# Altium integrated library Resistors$.IntLib: 1243 symbols (part 1 of 7)
Pins are listed as number, name and electrical type; pins without a type are passive.

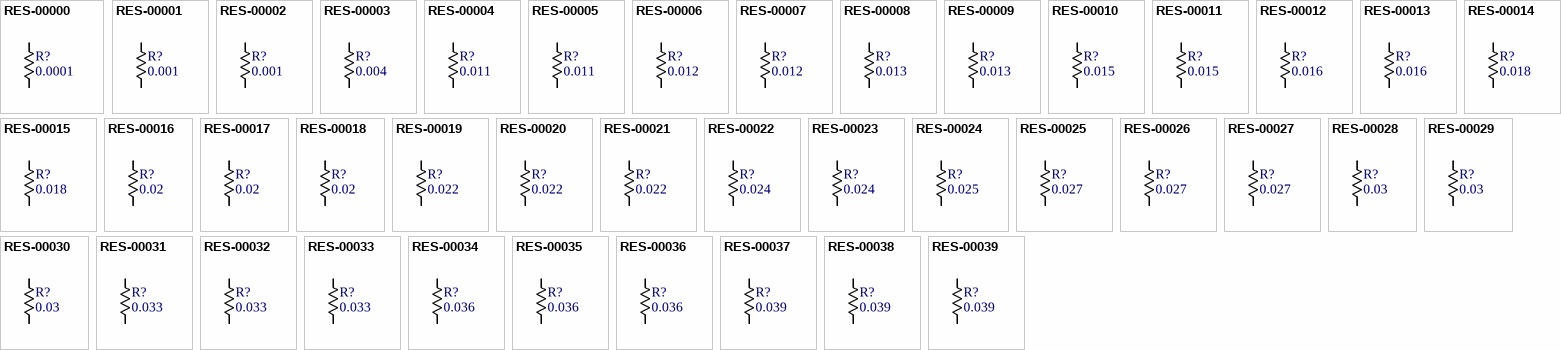
[diagram p0: symbols RES-00000 to RES-00039]

## RES-00000
designator R?, comment 0.0001
RES, 0.0001, 1%, 4W, 2725; Part Number: RES-00000; Manufacturer: Stackpole; Manufacturer PN: CSS2725FT1L00; Resistance: 0.0001; Tolerance: 1%; Power Rating: 4W
footprint chip_2725
pins: 1, 2

## RES-00001
designator R?, comment 0.001
RES, 0.001, 1%, 5W, 2512 CS; Part Number: RES-00001; Manufacturer: Vishay Dale; Manufacturer PN: WSLF25121L000FEA; Resistance: 0.001; Tolerance: 1%; Power Rating: 5W
footprint chip_2512_cs
pins: 1, 2

## RES-00002
designator R?, comment 0.001
RES, 0.001, 1%, 1W, 2512; Part Number: RES-00002; Manufacturer: Yageo; Manufacturer PN: PA2512FKF070R001E; Resistance: 0.001; Tolerance: 1%; Power Rating: 1W
footprint chip_2512_cs
pins: 1, 2

## RES-00003
designator R?, comment 0.004
RES, 0.003, 1%, 2W, 2512; Part Number: RES-00003; Manufacturer: Rohm; Manufacturer PN: PMR100HZPFV4L00; Resistance: 0.004; Tolerance: 1%; Power Rating: 2W
footprint chip_2512_cs
pins: 1, 2

## RES-00004
designator R?, comment 0.011
RES, 0.011, 1%, 333mW, 0805; Part Number: RES-00004; Manufacturer: Rohm; Manufacturer PN: UCR10EVHFSR011; Resistance: 0.011; Tolerance: 1%; Power Rating: 333mW
footprint chip_0805
pins: 1, 2

## RES-00005
designator R?, comment 0.011
RES, 0.011, 1%, 500mW, 1206; Part Number: RES-00005; Manufacturer: Rohm; Manufacturer PN: UCR18EVHFSR011; Resistance: 0.011; Tolerance: 1%; Power Rating: 500mW
footprint chip_1206
pins: 1, 2

## RES-00006
designator R?, comment 0.012
RES, 0.012, 1%, 333mW, 0805; Part Number: RES-00006; Manufacturer: Rohm; Manufacturer PN: UCR10EVHFSR012; Resistance: 0.012; Tolerance: 1%; Power Rating: 333mW
footprint chip_0805
pins: 1, 2

## RES-00007
designator R?, comment 0.012
RES, 0.012, 1%, 500mW, 1206; Part Number: RES-00007; Manufacturer: Rohm; Manufacturer PN: UCR18EVHFSR012; Resistance: 0.012; Tolerance: 1%; Power Rating: 500mW
footprint chip_1206
pins: 1, 2

## RES-00008
designator R?, comment 0.013
RES, 0.013, 1%, 333mW, 0805; Part Number: RES-00008; Manufacturer: Rohm; Manufacturer PN: UCR10EVHFSR013; Resistance: 0.013; Tolerance: 1%; Power Rating: 333mW
footprint chip_0805
pins: 1, 2

## RES-00009
designator R?, comment 0.013
RES, 0.013, 1%, 500mW, 1206; Part Number: RES-00009; Manufacturer: Rohm; Manufacturer PN: UCR18EVHFSR013; Resistance: 0.013; Tolerance: 1%; Power Rating: 500mW
footprint chip_1206
pins: 1, 2

## RES-00010
designator R?, comment 0.015
RES, 0.015, 1%, 333mW, 0805; Part Number: RES-00010; Manufacturer: Rohm; Manufacturer PN: UCR10EVHFSR015; Resistance: 0.015; Tolerance: 1%; Power Rating: 333mW
footprint chip_0805
pins: 1, 2

## RES-00011
designator R?, comment 0.015
RES, 0.015, 1%, 500mW, 1206; Part Number: RES-00011; Manufacturer: Rohm; Manufacturer PN: UCR18EVHFSR015; Resistance: 0.015; Tolerance: 1%; Power Rating: 500mW
footprint chip_1206
pins: 1, 2

## RES-00012
designator R?, comment 0.016
RES, 0.016, 1%, 333mW, 0805; Part Number: RES-00012; Manufacturer: Rohm; Manufacturer PN: UCR10EVHFSR016; Resistance: 0.016; Tolerance: 1%; Power Rating: 333mW
footprint chip_0805
pins: 1, 2

## RES-00013
designator R?, comment 0.016
RES, 0.016, 1%, 500mW, 1206; Part Number: RES-00013; Manufacturer: Rohm; Manufacturer PN: UCR18EVHFSR016; Resistance: 0.016; Tolerance: 1%; Power Rating: 500mW
footprint chip_1206
pins: 1, 2

## RES-00014
designator R?, comment 0.018
RES, 0.018, 1%, 500mW, 1206; Part Number: RES-00014; Manufacturer: Rohm; Manufacturer PN: UCR18EVHFSR018; Resistance: 0.018; Tolerance: 1%; Power Rating: 500mW
footprint chip_1206
pins: 1, 2

## RES-00015
designator R?, comment 0.018
RES, 0.018, 1%, 333mW, 0805; Part Number: RES-00015; Manufacturer: Rohm; Manufacturer PN: UCR10EVHFSR018; Resistance: 0.018; Tolerance: 1%; Power Rating: 333mW
footprint chip_0805
pins: 1, 2

## RES-00016
designator R?, comment 0.02
RES, 0.02, 1%, 500mW, 1206; Part Number: RES-00016; Manufacturer: Rohm; Manufacturer PN: UCR18EVHFSR020; Resistance: 0.02; Tolerance: 1%; Power Rating: 500mW
footprint chip_1206
pins: 1, 2

## RES-00017
designator R?, comment 0.02
RES, 0.02, 1%, 333mW, 0805; Part Number: RES-00017; Manufacturer: Rohm; Manufacturer PN: UCR10EVHFSR020; Resistance: 0.02; Tolerance: 1%; Power Rating: 333mW
footprint chip_0805
pins: 1, 2

## RES-00018
designator R?, comment 0.02
RES, 0.02, 1%, 250mW, 0603; Part Number: RES-00018; Manufacturer: Rohm; Manufacturer PN: UCR03EWPFSR020; Resistance: 0.02; Tolerance: 1%; Power Rating: 250mW
footprint chip_0603
pins: 1, 2

## RES-00019
designator R?, comment 0.022
RES, 0.022, 1%, 333mW, 0805; Part Number: RES-00019; Manufacturer: Rohm; Manufacturer PN: UCR10EVHFSR022; Resistance: 0.022; Tolerance: 1%; Power Rating: 333mW
footprint chip_0805
pins: 1, 2

## RES-00020
designator R?, comment 0.022
RES, 0.022, 1%, 250mW, 0603; Part Number: RES-00020; Manufacturer: Rohm; Manufacturer PN: UCR03EWPFSR022; Resistance: 0.022; Tolerance: 1%; Power Rating: 250mW
footprint chip_0603
pins: 1, 2

## RES-00021
designator R?, comment 0.022
RES, 0.022, 1%, 500mW, 1206; Part Number: RES-00021; Manufacturer: Rohm; Manufacturer PN: UCR18EVHFSR022; Resistance: 0.022; Tolerance: 1%; Power Rating: 500mW
footprint chip_1206
pins: 1, 2

## RES-00022
designator R?, comment 0.024
RES, 0.024, 1%, 250mW, 0603; Part Number: RES-00022; Manufacturer: Rohm; Manufacturer PN: UCR03EWPFSR024; Resistance: 0.024; Tolerance: 1%; Power Rating: 250mW
footprint chip_0603
pins: 1, 2

## RES-00023
designator R?, comment 0.024
RES, 0.024, 1%, 500mW, 1206; Part Number: RES-00023; Manufacturer: Rohm; Manufacturer PN: UCR18EVHFSR024; Resistance: 0.024; Tolerance: 1%; Power Rating: 500mW
footprint chip_1206
pins: 1, 2

## RES-00024
designator R?, comment 0.025
RES, 0.025, 1%, 333mW, 0805; Part Number: RES-00024; Manufacturer: Rohm; Manufacturer PN: UCR10EVHFSR025; Resistance: 0.025; Tolerance: 1%; Power Rating: 333mW
footprint chip_0805
pins: 1, 2

## RES-00025
designator R?, comment 0.027
RES, 0.027, 1%, 333mW, 0805; Part Number: RES-00025; Manufacturer: Rohm; Manufacturer PN: UCR10EVHFSR027; Resistance: 0.027; Tolerance: 1%; Power Rating: 333mW
footprint chip_0805
pins: 1, 2

## RES-00026
designator R?, comment 0.027
RES, 0.027, 1%, 500mW, 1206; Part Number: RES-00026; Manufacturer: Rohm; Manufacturer PN: UCR18EVHFSR027; Resistance: 0.027; Tolerance: 1%; Power Rating: 500mW
footprint chip_1206
pins: 1, 2

## RES-00027
designator R?, comment 0.027
RES, 0.027, 1%, 250mW, 0603; Part Number: RES-00027; Manufacturer: Rohm; Manufacturer PN: UCR03EWPFSR027; Resistance: 0.027; Tolerance: 1%; Power Rating: 250mW
footprint chip_0603
pins: 1, 2

## RES-00028
designator R?, comment 0.03
RES, 0.03, 1%, 500mW, 1206; Part Number: RES-00028; Manufacturer: Rohm; Manufacturer PN: UCR18EVHFSR030; Resistance: 0.03; Tolerance: 1%; Power Rating: 500mW
footprint chip_1206
pins: 1, 2

## RES-00029
designator R?, comment 0.03
RES, 0.03, 1%, 333mW, 0805; Part Number: RES-00029; Manufacturer: Rohm; Manufacturer PN: UCR10EVHFSR030; Resistance: 0.03; Tolerance: 1%; Power Rating: 333mW
footprint chip_0805
pins: 1, 2

## RES-00030
designator R?, comment 0.03
RES, 0.03, 1%, 250mW, 0603; Part Number: RES-00030; Manufacturer: Rohm; Manufacturer PN: UCR03EWPFSR030; Resistance: 0.03; Tolerance: 1%; Power Rating: 250mW
footprint chip_0603
pins: 1, 2

## RES-00031
designator R?, comment 0.033
RES, 0.033, 1%, 250mW, 0603; Part Number: RES-00031; Manufacturer: Rohm; Manufacturer PN: UCR03EWPFSR033; Resistance: 0.033; Tolerance: 1%; Power Rating: 250mW
footprint chip_0603
pins: 1, 2

## RES-00032
designator R?, comment 0.033
RES, 0.033, 1%, 500mW, 1206; Part Number: RES-00032; Manufacturer: Rohm; Manufacturer PN: UCR18EVHFSR033; Resistance: 0.033; Tolerance: 1%; Power Rating: 500mW
footprint chip_1206
pins: 1, 2

## RES-00033
designator R?, comment 0.033
RES, 0.033, 1%, 333mW, 0805; Part Number: RES-00033; Manufacturer: Rohm; Manufacturer PN: UCR10EVHFSR033; Resistance: 0.033; Tolerance: 1%; Power Rating: 333mW
footprint chip_0805
pins: 1, 2

## RES-00034
designator R?, comment 0.036
RES, 0.036, 1%, 333mW, 0805; Part Number: RES-00034; Manufacturer: Rohm; Manufacturer PN: UCR10EVHFSR036; Resistance: 0.036; Tolerance: 1%; Power Rating: 333mW
footprint chip_0805
pins: 1, 2

## RES-00035
designator R?, comment 0.036
RES, 0.036, 1%, 250mW, 0603; Part Number: RES-00035; Manufacturer: Rohm; Manufacturer PN: UCR03EWPFSR036; Resistance: 0.036; Tolerance: 1%; Power Rating: 250mW
footprint chip_0603
pins: 1, 2

## RES-00036
designator R?, comment 0.036
RES, 0.036, 1%, 500mW, 1206; Part Number: RES-00036; Manufacturer: Rohm; Manufacturer PN: UCR18EVHFSR036; Resistance: 0.036; Tolerance: 1%; Power Rating: 500mW
footprint chip_1206
pins: 1, 2

## RES-00037
designator R?, comment 0.039
RES, 0.039, 1%, 333mW, 0805; Part Number: RES-00037; Manufacturer: Rohm; Manufacturer PN: UCR10EVHFSR039; Resistance: 0.039; Tolerance: 1%; Power Rating: 333mW
footprint chip_0805
pins: 1, 2

## RES-00038
designator R?, comment 0.039
RES, 0.039, 1%, 500mW, 1206; Part Number: RES-00038; Manufacturer: Rohm; Manufacturer PN: UCR18EVHFSR039; Resistance: 0.039; Tolerance: 1%; Power Rating: 500mW
footprint chip_1206
pins: 1, 2

## RES-00039
designator R?, comment 0.039
RES, 0.039, 1%, 250mW, 0603; Part Number: RES-00039; Manufacturer: Rohm; Manufacturer PN: UCR03EWPFSR039; Resistance: 0.039; Tolerance: 1%; Power Rating: 250mW
footprint chip_0603
pins: 1, 2

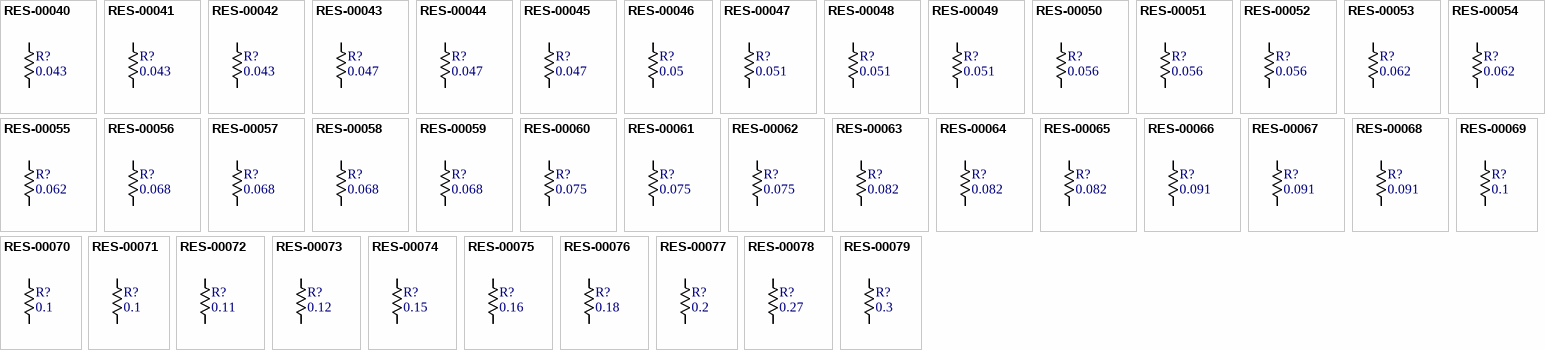
[diagram p1: symbols RES-00040 to RES-00079]

## RES-00040
designator R?, comment 0.043
RES, 0.043, 1%, 333mW, 0805; Part Number: RES-00040; Manufacturer: Rohm; Manufacturer PN: UCR10EVHFSR043; Resistance: 0.043; Tolerance: 1%; Power Rating: 333mW
footprint chip_0805
pins: 1, 2

## RES-00041
designator R?, comment 0.043
RES, 0.043, 1%, 500mW, 1206; Part Number: RES-00041; Manufacturer: Rohm; Manufacturer PN: UCR18EVHFSR043; Resistance: 0.043; Tolerance: 1%; Power Rating: 500mW
footprint chip_1206
pins: 1, 2

## RES-00042
designator R?, comment 0.043
RES, 0.043, 1%, 250mW, 0603; Part Number: RES-00042; Manufacturer: Rohm; Manufacturer PN: UCR03EWPFSR043; Resistance: 0.043; Tolerance: 1%; Power Rating: 250mW
footprint chip_0603
pins: 1, 2

## RES-00043
designator R?, comment 0.047
RES, 0.047, 1%, 500mW, 1206; Part Number: RES-00043; Manufacturer: Rohm; Manufacturer PN: UCR18EVHFSR047; Resistance: 0.047; Tolerance: 1%; Power Rating: 500mW
footprint chip_1206
pins: 1, 2

## RES-00044
designator R?, comment 0.047
RES, 0.047, 1%, 333mW, 0805; Part Number: RES-00044; Manufacturer: Rohm; Manufacturer PN: UCR10EVHFSR047; Resistance: 0.047; Tolerance: 1%; Power Rating: 333mW
footprint chip_0805
pins: 1, 2

## RES-00045
designator R?, comment 0.047
RES, 0.047, 1%, 250mW, 0603; Part Number: RES-00045; Manufacturer: Rohm; Manufacturer PN: UCR03EWPFSR047; Resistance: 0.047; Tolerance: 1%; Power Rating: 250mW
footprint chip_0603
pins: 1, 2

## RES-00046
designator R?, comment 0.05
RES, 0.05, 1%, 333mW, 0805; Part Number: RES-00046; Manufacturer: Rohm; Manufacturer PN: UCR10EVHFSR050; Resistance: 0.05; Tolerance: 1%; Power Rating: 333mW
footprint chip_0805
pins: 1, 2

## RES-00047
designator R?, comment 0.051
RES, 0.051, 1%, 250mW, 0603; Part Number: RES-00047; Manufacturer: Rohm; Manufacturer PN: UCR03EVPFSR051; Resistance: 0.051; Tolerance: 1%; Power Rating: 250mW
footprint chip_0603
pins: 1, 2

## RES-00048
designator R?, comment 0.051
RES, 0.051, 1%, 500mW, 1206; Part Number: RES-00048; Manufacturer: Rohm; Manufacturer PN: UCR18EVHFSR051; Resistance: 0.051; Tolerance: 1%; Power Rating: 500mW
footprint chip_1206
pins: 1, 2

## RES-00049
designator R?, comment 0.051
RES, 0.051, 1%, 333mW, 0805; Part Number: RES-00049; Manufacturer: Rohm; Manufacturer PN: UCR10EVHFSR051; Resistance: 0.051; Tolerance: 1%; Power Rating: 333mW
footprint chip_0805
pins: 1, 2

## RES-00050
designator R?, comment 0.056
RES, 0.056, 1%, 250mW, 0603; Part Number: RES-00050; Manufacturer: Rohm; Manufacturer PN: UCR03EVPFSR056; Resistance: 0.056; Tolerance: 1%; Power Rating: 250mW
footprint chip_0603
pins: 1, 2

## RES-00051
designator R?, comment 0.056
RES, 0.056, 1%, 333mW, 0805; Part Number: RES-00051; Manufacturer: Rohm; Manufacturer PN: UCR10EVHFSR056; Resistance: 0.056; Tolerance: 1%; Power Rating: 333mW
footprint chip_0805
pins: 1, 2

## RES-00052
designator R?, comment 0.056
RES, 0.056, 1%, 500mW, 1206; Part Number: RES-00052; Manufacturer: Rohm; Manufacturer PN: UCR18EVHFSR056; Resistance: 0.056; Tolerance: 1%; Power Rating: 500mW
footprint chip_1206
pins: 1, 2

## RES-00053
designator R?, comment 0.062
RES, 0.062, 1%, 250mW, 0603; Part Number: RES-00053; Manufacturer: Rohm; Manufacturer PN: UCR03EVPFSR062; Resistance: 0.062; Tolerance: 1%; Power Rating: 250mW
footprint chip_0603
pins: 1, 2

## RES-00054
designator R?, comment 0.062
RES, 0.062, 1%, 500mW, 1206; Part Number: RES-00054; Manufacturer: Rohm; Manufacturer PN: UCR18EVHFSR062; Resistance: 0.062; Tolerance: 1%; Power Rating: 500mW
footprint chip_1206
pins: 1, 2

## RES-00055
designator R?, comment 0.062
RES, 0.062, 1%, 333mW, 0805; Part Number: RES-00055; Manufacturer: Rohm; Manufacturer PN: UCR10EVHFSR062; Resistance: 0.062; Tolerance: 1%; Power Rating: 333mW
footprint chip_0805
pins: 1, 2

## RES-00056
designator R?, comment 0.068
RES, 0.068, 1%, 250mW, 0603; Part Number: RES-00056; Manufacturer: Rohm; Manufacturer PN: UCR03EVPFSR068; Resistance: 0.068; Tolerance: 1%; Power Rating: 250mW
footprint chip_0603
pins: 1, 2

## RES-00057
designator R?, comment 0.068
RES, 0.068, 1%, 125mW, 0402; Part Number: RES-00057; Manufacturer: Rohm; Manufacturer PN: UCR01MVPFSR068; Resistance: 0.068; Tolerance: 1%; Power Rating: 125mW
footprint chip_0402
pins: 1, 2

## RES-00058
designator R?, comment 0.068
RES, 0.068, 1%, 333mW, 0805; Part Number: RES-00058; Manufacturer: Rohm; Manufacturer PN: UCR10EVHFSR068; Resistance: 0.068; Tolerance: 1%; Power Rating: 333mW
footprint chip_0805
pins: 1, 2

## RES-00059
designator R?, comment 0.068
RES, 0.068, 1%, 500mW, 1206; Part Number: RES-00059; Manufacturer: Rohm; Manufacturer PN: UCR18EVHFSR068; Resistance: 0.068; Tolerance: 1%; Power Rating: 500mW
footprint chip_1206
pins: 1, 2

## RES-00060
designator R?, comment 0.075
RES, 0.075, 1%, 250mW, 0603; Part Number: RES-00060; Manufacturer: Rohm; Manufacturer PN: UCR03EVPFSR075; Resistance: 0.075; Tolerance: 1%; Power Rating: 250mW
footprint chip_0603
pins: 1, 2

## RES-00061
designator R?, comment 0.075
RES, 0.075, 1%, 333mW, 0805; Part Number: RES-00061; Manufacturer: Rohm; Manufacturer PN: UCR10EVHFSR075; Resistance: 0.075; Tolerance: 1%; Power Rating: 333mW
footprint chip_0805
pins: 1, 2

## RES-00062
designator R?, comment 0.075
RES, 0.075, 1%, 500mW, 1206; Part Number: RES-00062; Manufacturer: Rohm; Manufacturer PN: UCR18EVHFSR075; Resistance: 0.075; Tolerance: 1%; Power Rating: 500mW
footprint chip_1206
pins: 1, 2

## RES-00063
designator R?, comment 0.082
RES, 0.082, 1%, 250mW, 0603; Part Number: RES-00063; Manufacturer: Rohm; Manufacturer PN: UCR03EVPFSR082; Resistance: 0.082; Tolerance: 1%; Power Rating: 250mW
footprint chip_0603
pins: 1, 2

## RES-00064
designator R?, comment 0.082
RES, 0.082, 1%, 333mW, 0805; Part Number: RES-00064; Manufacturer: Rohm; Manufacturer PN: UCR10EVHFSR082; Resistance: 0.082; Tolerance: 1%; Power Rating: 333mW
footprint chip_0805
pins: 1, 2

## RES-00065
designator R?, comment 0.082
RES, 0.082, 1%, 500mW, 1206; Part Number: RES-00065; Manufacturer: Rohm; Manufacturer PN: UCR18EVHFSR082; Resistance: 0.082; Tolerance: 1%; Power Rating: 500mW
footprint chip_1206
pins: 1, 2

## RES-00066
designator R?, comment 0.091
RES, 0.091, 1%, 333mW, 0805; Part Number: RES-00066; Manufacturer: Rohm; Manufacturer PN: UCR10EVHFSR091; Resistance: 0.091; Tolerance: 1%; Power Rating: 333mW
footprint chip_0805
pins: 1, 2

## RES-00067
designator R?, comment 0.091
RES, 0.091, 1%, 500mW, 1206; Part Number: RES-00067; Manufacturer: Rohm; Manufacturer PN: UCR18EVHFSR091; Resistance: 0.091; Tolerance: 1%; Power Rating: 500mW
footprint chip_1206
pins: 1, 2

## RES-00068
designator R?, comment 0.091
RES, 0.091, 1%, 250mW, 0603; Part Number: RES-00068; Manufacturer: Rohm; Manufacturer PN: UCR03EVPFSR091; Resistance: 0.091; Tolerance: 1%; Power Rating: 250mW
footprint chip_0603
pins: 1, 2

## RES-00069
designator R?, comment 0.1
RES, 0.1, 1%, 250mW, 0603; Part Number: RES-00069; Manufacturer: Rohm; Manufacturer PN: UCR03EVPFLR100; Resistance: 0.1; Tolerance: 1%; Power Rating: 250mW
footprint chip_0603
pins: 1, 2

## RES-00070
designator R?, comment 0.1
RES, 0.1, 1%, 333mW, 0805; Part Number: RES-00070; Manufacturer: Rohm; Manufacturer PN: UCR10EVHFLR100; Resistance: 0.1; Tolerance: 1%; Power Rating: 333mW
footprint chip_0805
pins: 1, 2

## RES-00071
designator R?, comment 0.1
RES, 0.1, 1%, 500mW, 1206; Part Number: RES-00071; Manufacturer: Rohm; Manufacturer PN: UCR18EVHFLR100; Resistance: 0.1; Tolerance: 1%; Power Rating: 500mW
footprint chip_1206
pins: 1, 2

## RES-00072
designator R?, comment 0.11
RES, 0.11, 1%, 250mW, 0603; Part Number: RES-00072; Manufacturer: Rohm; Manufacturer PN: UCR03EVPFLR110; Resistance: 0.11; Tolerance: 1%; Power Rating: 250mW
footprint chip_0603
pins: 1, 2

## RES-00073
designator R?, comment 0.12
RES, 0.12, 1%, 250mW, 0603; Part Number: RES-00073; Manufacturer: Rohm; Manufacturer PN: UCR03EVPFLR120; Resistance: 0.12; Tolerance: 1%; Power Rating: 250mW
footprint chip_0603
pins: 1, 2

## RES-00074
designator R?, comment 0.15
RES, 0.15, 1%, 250mW, 0603; Part Number: RES-00074; Manufacturer: Rohm; Manufacturer PN: UCR03EVPFLR150; Resistance: 0.15; Tolerance: 1%; Power Rating: 250mW
footprint chip_0603
pins: 1, 2

## RES-00075
designator R?, comment 0.16
RES, 0.16, 1%, 250mW, 0603; Part Number: RES-00075; Manufacturer: Rohm; Manufacturer PN: UCR03EVPFLR160; Resistance: 0.16; Tolerance: 1%; Power Rating: 250mW
footprint chip_0603
pins: 1, 2

## RES-00076
designator R?, comment 0.18
RES, 0.18, 1%, 250mW, 0603; Part Number: RES-00076; Manufacturer: Rohm; Manufacturer PN: UCR03EVPFLR180; Resistance: 0.18; Tolerance: 1%; Power Rating: 250mW
footprint chip_0603
pins: 1, 2

## RES-00077
designator R?, comment 0.2
RES, 0.2, 1%, 250mW, 0603; Part Number: RES-00077; Manufacturer: Rohm; Manufacturer PN: UCR03EVPFLR200; Resistance: 0.2; Tolerance: 1%; Power Rating: 250mW
footprint chip_0603
pins: 1, 2

## RES-00078
designator R?, comment 0.27
RES, 0.27, 1%, 200mW, 0603; Part Number: RES-00078; Manufacturer: Rohm; Manufacturer PN: UCR03EVPFLR270; Resistance: 0.27; Tolerance: 1%; Power Rating: 200mW
footprint chip_0603
pins: 1, 2

## RES-00079
designator R?, comment 0.3
RES, 0.3, 1%, 200mW, 0603; Part Number: RES-00079; Manufacturer: Rohm; Manufacturer PN: UCR03EVPFLR300; Resistance: 0.3; Tolerance: 1%; Power Rating: 200mW
footprint chip_0603
pins: 1, 2

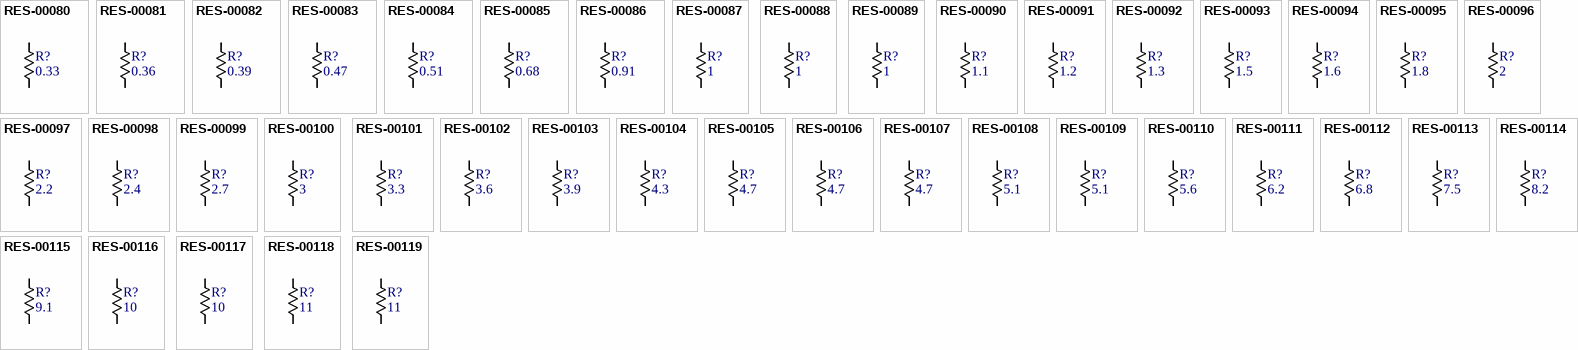
[diagram p2: symbols RES-00080 to RES-00119]

## RES-00080
designator R?, comment 0.33
RES, 0.33, 1%, 200mW, 0603; Part Number: RES-00080; Manufacturer: Rohm; Manufacturer PN: UCR03EVPFLR330; Resistance: 0.33; Tolerance: 1%; Power Rating: 200mW
footprint chip_0603
pins: 1, 2

## RES-00081
designator R?, comment 0.36
RES, 0.36, 1%, 200mW, 0603; Part Number: RES-00081; Manufacturer: Rohm; Manufacturer PN: UCR03EVPFLR360; Resistance: 0.36; Tolerance: 1%; Power Rating: 200mW
footprint chip_0603
pins: 1, 2

## RES-00082
designator R?, comment 0.39
RES, 0.39, 1%, 200mW, 0603; Part Number: RES-00082; Manufacturer: Rohm; Manufacturer PN: UCR03EVPFLR390; Resistance: 0.39; Tolerance: 1%; Power Rating: 200mW
footprint chip_0603
pins: 1, 2

## RES-00083
designator R?, comment 0.47
RES, 0.47, 1%, 200mW, 0603; Part Number: RES-00083; Manufacturer: Rohm; Manufacturer PN: UCR03EVPFLR470; Resistance: 0.47; Tolerance: 1%; Power Rating: 200mW
footprint chip_0603
pins: 1, 2

## RES-00084
designator R?, comment 0.51
RES, 0.51, 1%, 200mW, 0603; Part Number: RES-00084; Manufacturer: Rohm; Manufacturer PN: UCR03EVPFLR510; Resistance: 0.51; Tolerance: 1%; Power Rating: 200mW
footprint chip_0603
pins: 1, 2

## RES-00085
designator R?, comment 0.68
RES, 0.68, 1%, 200mW, 0603; Part Number: RES-00085; Manufacturer: Rohm; Manufacturer PN: UCR03EVPFLR680; Resistance: 0.68; Tolerance: 1%; Power Rating: 200mW
footprint chip_0603
pins: 1, 2

## RES-00086
designator R?, comment 0.91
RES, 0.91, 1%, 200mW, 0603; Part Number: RES-00086; Manufacturer: Rohm; Manufacturer PN: UCR03EVPFLR910; Resistance: 0.91; Tolerance: 1%; Power Rating: 200mW
footprint chip_0603
pins: 1, 2

## RES-00087
designator R?, comment 1
RES SMD 1 OHM 1% 1/8W 0805; Part Number: RES-00087; Manufacturer: Rohm; Manufacturer PN: KTR10EZPF1R00; Tolerance: 0.01; Power Rating: 0.125W; Resistance: 1
footprint chip_0805
pins: 1, 2

## RES-00088
designator R?, comment 1
RES SMD 1 OHM 1% 1/4W 0603; Part Number: RES-00088; Manufacturer: Panasonic; Manufacturer PN: ERJ-3BQF1R0V; Power Rating: 0.25W; Resistance: 1; Tolerance: 1%
footprint chip_0603
pins: 1, 2

## RES-00089
designator R?, comment 1
RES SMD 1 OHM 1% 1/8W 0805; Part Number: RES-00089; Manufacturer: Rohm Semiconductor; Manufacturer PN: KTR10EZPF1R00; Power Rating: 0.125W; Resistance: 1; Tolerance: 1%
footprint chip_0805
pins: 1, 2

## RES-00090
designator R?, comment 1.1
RES SMD 1.1 OHM 1% 1/4W 0603; Part Number: RES-00090; Manufacturer: Panasonic; Manufacturer PN: ERJ-3BQF1R1V; Power Rating: 0.25W; Resistance: 1.1; Tolerance: 1%
footprint chip_0603
pins: 1, 2

## RES-00091
designator R?, comment 1.2
RES SMD 1.2 OHM 1% 1/4W 0603; Part Number: RES-00091; Manufacturer: Panasonic; Manufacturer PN: ERJ-3BQF1R2V; Power Rating: 0.25W; Resistance: 1.2; Tolerance: 1%
footprint chip_0603
pins: 1, 2

## RES-00092
designator R?, comment 1.3
RES SMD 1.3 OHM 1% 1/4W 0603; Part Number: RES-00092; Manufacturer: Panasonic; Manufacturer PN: ERJ-3BQF1R3V; Power Rating: 0.25W; Resistance: 1.3; Tolerance: 1%
footprint chip_0603
pins: 1, 2

## RES-00093
designator R?, comment 1.5
RES SMD 1.5 OHM 1% 1/4W 0603; Part Number: RES-00093; Manufacturer: Panasonic; Manufacturer PN: ERJ-3BQF1R5V; Power Rating: 0.25W; Resistance: 1.5; Tolerance: 1%
footprint chip_0603
pins: 1, 2

## RES-00094
designator R?, comment 1.6
RES SMD 1.6 OHM 1% 1/4W 0603; Part Number: RES-00094; Manufacturer: Panasonic; Manufacturer PN: ERJ-3BQF1R6V; Power Rating: 0.25W; Resistance: 1.6; Tolerance: 1%
footprint chip_0603
pins: 1, 2

## RES-00095
designator R?, comment 1.8
RES SMD 1.8 OHM 1% 1/4W 0603; Part Number: RES-00095; Manufacturer: Panasonic; Manufacturer PN: ERJ-3BQF1R8V; Power Rating: 0.25W; Resistance: 1.8; Tolerance: 1%
footprint chip_0603
pins: 1, 2

## RES-00096
designator R?, comment 2
RES SMD 2 OHM 1% 1/4W 0603; Part Number: RES-00096; Manufacturer: Panasonic; Manufacturer PN: ERJ-3BQF2R0V; Power Rating: 0.25W; Resistance: 2; Tolerance: 1%
footprint chip_0603
pins: 1, 2

## RES-00097
designator R?, comment 2.2
RES SMD 2.2 OHM 1% 1/4W 0603; Part Number: RES-00097; Manufacturer: Panasonic; Manufacturer PN: ERJ-3BQF2R2V; Power Rating: 0.25W; Resistance: 2.2; Tolerance: 1%
footprint chip_0603
pins: 1, 2

## RES-00098
designator R?, comment 2.4
RES SMD 2.4 OHM 1% 1/4W 0603; Part Number: RES-00098; Manufacturer: Panasonic; Manufacturer PN: ERJ-3BQF2R4V; Power Rating: 0.25W; Resistance: 2.4; Tolerance: 1%
footprint chip_0603
pins: 1, 2

## RES-00099
designator R?, comment 2.7
RES SMD 2.7 OHM 1% 1/4W 0603; Part Number: RES-00099; Manufacturer: Panasonic; Manufacturer PN: ERJ-3BQF2R7V; Power Rating: 0.25W; Resistance: 2.7; Tolerance: 1%
footprint chip_0603
pins: 1, 2

## RES-00100
designator R?, comment 3
RES SMD 3 OHM 1% 1/4W 0603; Part Number: RES-00100; Manufacturer: Panasonic; Manufacturer PN: ERJ-3BQF3R0V; Power Rating: 0.25W; Resistance: 3; Tolerance: 1%
footprint chip_0603
pins: 1, 2

## RES-00101
designator R?, comment 3.3
RES SMD 3.3 OHM 1% 1/4W 0603; Part Number: RES-00101; Manufacturer: Panasonic; Manufacturer PN: ERJ-3BQF3R3V; Power Rating: 0.25W; Resistance: 3.3; Tolerance: 1%
footprint chip_0603
pins: 1, 2

## RES-00102
designator R?, comment 3.6
RES SMD 3.6 OHM 1% 1/4W 0603; Part Number: RES-00102; Manufacturer: Panasonic; Manufacturer PN: ERJ-3BQF3R6V; Power Rating: 0.25W; Resistance: 3.6; Tolerance: 1%
footprint chip_0603
pins: 1, 2

## RES-00103
designator R?, comment 3.9
RES SMD 3.9 OHM 1% 1/4W 0603; Part Number: RES-00103; Manufacturer: Panasonic; Manufacturer PN: ERJ-3BQF3R9V; Power Rating: 0.25W; Resistance: 3.9; Tolerance: 1%
footprint chip_0603
pins: 1, 2

## RES-00104
designator R?, comment 4.3
RES SMD 4.3 OHM 1% 1/4W 0603; Part Number: RES-00104; Manufacturer: Panasonic; Manufacturer PN: ERJ-3BQF4R3V; Power Rating: 0.25W; Resistance: 4.3; Tolerance: 1%
footprint chip_0603
pins: 1, 2

## RES-00105
designator R?, comment 4.7
RES SMD 4.7 OHM 1% 1/8W 0805; Part Number: RES-00105; Manufacturer: Rohm; Manufacturer PN: KTR10EZPF4R70; Tolerance: 0.01; Power Rating: 0.125W; Resistance: 4.7
footprint chip_0805
pins: 1, 2

## RES-00106
designator R?, comment 4.7
RES SMD 4.7 OHM 1% 1/4W 0603; Part Number: RES-00106; Manufacturer: Panasonic; Manufacturer PN: ERJ-3BQF4R7V; Power Rating: 0.25W; Resistance: 4.7; Tolerance: 1%
footprint chip_0603
pins: 1, 2

## RES-00107
designator R?, comment 4.7
RES SMD 4.7 OHM 1% 1/8W 0805; Part Number: RES-00107; Manufacturer: Rohm Semiconductor; Manufacturer PN: KTR10EZPF4R70; Power Rating: 0.125W; Resistance: 4.7; Tolerance: 1%
footprint chip_0805
pins: 1, 2

## RES-00108
designator R?, comment 5.1
RES SMD 5.1 OHM 1% 1/4W 0603; Part Number: RES-00108; Manufacturer: Panasonic; Manufacturer PN: ERJ-3BQF5R1V; Power Rating: 0.25W; Resistance: 5.1; Tolerance: 1%
footprint chip_0603
pins: 1, 2

## RES-00109
designator R?, comment 5.1
RES SMD 5.1 OHM 1% 1/8W 0805; Part Number: RES-00109; Manufacturer: Rohm Semiconductor; Manufacturer PN: KTR10EZPF5R10; Power Rating: 0.125W; Resistance: 5.1; Tolerance: 1%
footprint chip_0805
pins: 1, 2

## RES-00110
designator R?, comment 5.6
RES SMD 5.6 OHM 1% 1/4W 0603; Part Number: RES-00110; Manufacturer: Panasonic; Manufacturer PN: ERJ-3BQF5R6V; Power Rating: 0.25W; Resistance: 5.6; Tolerance: 1%
footprint chip_0603
pins: 1, 2

## RES-00111
designator R?, comment 6.2
RES SMD 6.2 OHM 1% 1/4W 0603; Part Number: RES-00111; Manufacturer: Panasonic; Manufacturer PN: ERJ-3BQF6R2V; Power Rating: 0.25W; Resistance: 6.2; Tolerance: 1%
footprint chip_0603
pins: 1, 2

## RES-00112
designator R?, comment 6.8
RES SMD 6.8 OHM 1% 1/4W 0603; Part Number: RES-00112; Manufacturer: Panasonic; Manufacturer PN: ERJ-3BQF6R8V; Power Rating: 0.25W; Resistance: 6.8; Tolerance: 1%
footprint chip_0603
pins: 1, 2

## RES-00113
designator R?, comment 7.5
RES SMD 7.5 OHM 1% 1/4W 0603; Part Number: RES-00113; Manufacturer: Panasonic; Manufacturer PN: ERJ-3BQF7R5V; Power Rating: 0.25W; Resistance: 7.5; Tolerance: 1%
footprint chip_0603
pins: 1, 2

## RES-00114
designator R?, comment 8.2
RES SMD 8.2 OHM 1% 1/4W 0603; Part Number: RES-00114; Manufacturer: Panasonic; Manufacturer PN: ERJ-3BQF8R2V; Power Rating: 0.25W; Resistance: 8.2; Tolerance: 1%
footprint chip_0603
pins: 1, 2

## RES-00115
designator R?, comment 9.1
RES SMD 9.1 OHM 1% 1/4W 0603; Part Number: RES-00115; Manufacturer: Panasonic; Manufacturer PN: ERJ-3BQF9R1V; Power Rating: 0.25W; Resistance: 9.1; Tolerance: 1%
footprint chip_0603
pins: 1, 2

## RES-00116
designator R?, comment 10
RES SMD 10 OHM 1% 1/4W 0603; Part Number: RES-00116; Manufacturer: Panasonic; Manufacturer PN: ERJ-PA3F10R0V; Power Rating: 0.25W; Resistance: 10; Tolerance: 1%
footprint chip_0603
pins: 1, 2

## RES-00117
designator R?, comment 10
RES SMD 10 OHM 1% 1/8W 0805; Part Number: RES-00117; Manufacturer: Rohm Semiconductor; Manufacturer PN: KTR10EZPF10R0; Power Rating: 0.125W; Resistance: 10; Tolerance: 1%
footprint chip_0805
pins: 1, 2

## RES-00118
designator R?, comment 11
RES SMD 11 OHM 1% 1/4W 0603; Part Number: RES-00118; Manufacturer: Panasonic; Manufacturer PN: ERJ-PA3F11R0V; Power Rating: 0.25W; Resistance: 11; Tolerance: 1%
footprint chip_0603
pins: 1, 2

## RES-00119
designator R?, comment 11
RES SMD 11 OHM 1% 1/8W 0805; Part Number: RES-00119; Manufacturer: Rohm Semiconductor; Manufacturer PN: KTR10EZPF11R0; Power Rating: 0.125W; Resistance: 11; Tolerance: 1%
footprint chip_0805
pins: 1, 2

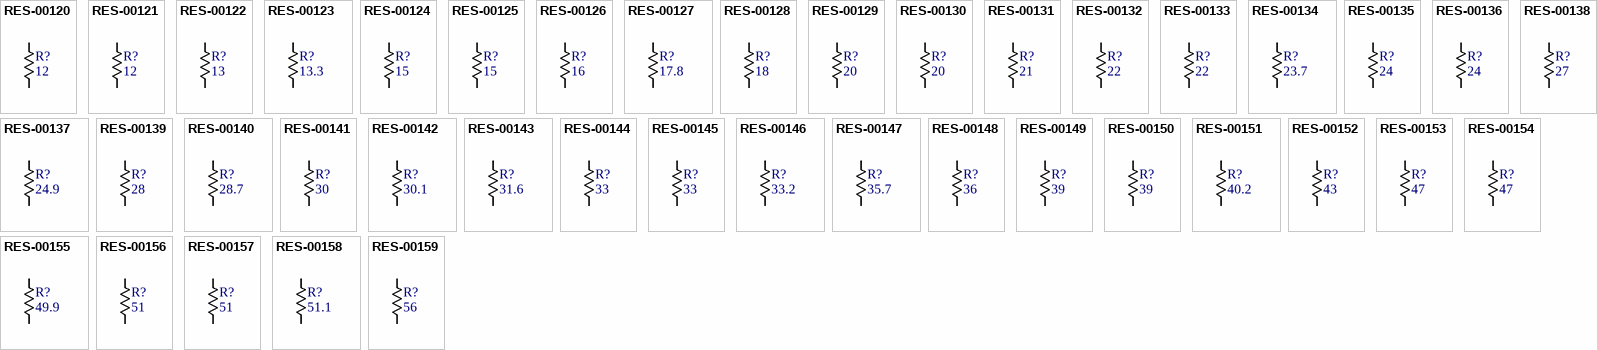
[diagram p3: symbols RES-00120 to RES-00159]

## RES-00120
designator R?, comment 12
RES SMD 12 OHM 1% 1/4W 0603; Part Number: RES-00120; Manufacturer: Panasonic; Manufacturer PN: ERJ-PA3F12R0V; Power Rating: 0.25W; Resistance: 12; Tolerance: 1%
footprint chip_0603
pins: 1, 2

## RES-00121
designator R?, comment 12
RES SMD 12 OHM 1% 1/8W 0805; Part Number: RES-00121; Manufacturer: Rohm Semiconductor; Manufacturer PN: KTR10EZPF12R0; Power Rating: 0.125W; Resistance: 12; Tolerance: 1%
footprint chip_0805
pins: 1, 2

## RES-00122
designator R?, comment 13
RES SMD 13 OHM 1% 1/4W 0603; Part Number: RES-00122; Manufacturer: Panasonic; Manufacturer PN: ERJ-PA3F13R0V; Power Rating: 0.25W; Resistance: 13; Tolerance: 1%
footprint chip_0603
pins: 1, 2

## RES-00123
designator R?, comment 13.3
RES SMD 13.3 OHM 1% 1/8W 0805; Part Number: RES-00123; Manufacturer: Rohm Semiconductor; Manufacturer PN: KTR10EZPF13R3; Power Rating: 0.125W; Resistance: 13.3; Tolerance: 1%
footprint chip_0805
pins: 1, 2

## RES-00124
designator R?, comment 15
RES SMD 15 OHM 1% 1/4W 0603; Part Number: RES-00124; Manufacturer: Panasonic; Manufacturer PN: ERJ-PA3F15R0V; Power Rating: 0.25W; Resistance: 15; Tolerance: 1%
footprint chip_0603
pins: 1, 2

## RES-00125
designator R?, comment 15
RES SMD 15 OHM 1% 1/8W 0805; Part Number: RES-00125; Manufacturer: Rohm Semiconductor; Manufacturer PN: KTR10EZPF15R0; Power Rating: 0.125W; Resistance: 15; Tolerance: 1%
footprint chip_0805
pins: 1, 2

## RES-00126
designator R?, comment 16
RES SMD 16 OHM 1% 1/4W 0603; Part Number: RES-00126; Manufacturer: Panasonic; Manufacturer PN: ERJ-PA3F16R0V; Power Rating: 0.25W; Resistance: 16; Tolerance: 1%
footprint chip_0603
pins: 1, 2

## RES-00127
designator R?, comment 17.8
RES SMD 17.8 OHM 1% 1/8W 0805; Part Number: RES-00127; Manufacturer: Rohm Semiconductor; Manufacturer PN: KTR10EZPF17R8; Power Rating: 0.125W; Resistance: 17.8; Tolerance: 1%
footprint chip_0805
pins: 1, 2

## RES-00128
designator R?, comment 18
RES SMD 18 OHM 1% 1/4W 0603; Part Number: RES-00128; Manufacturer: Panasonic; Manufacturer PN: ERJ-PA3F18R0V; Power Rating: 0.25W; Resistance: 18; Tolerance: 1%
footprint chip_0603
pins: 1, 2

## RES-00129
designator R?, comment 20
RES SMD 20 OHM 1% 1/4W 0603; Part Number: RES-00129; Manufacturer: Panasonic; Manufacturer PN: ERJ-PA3F20R0V; Power Rating: 0.25W; Resistance: 20; Tolerance: 1%
footprint chip_0603
pins: 1, 2

## RES-00130
designator R?, comment 20
RES SMD 20 OHM 1% 1/8W 0805; Part Number: RES-00130; Manufacturer: Rohm Semiconductor; Manufacturer PN: KTR10EZPF20R0; Power Rating: 0.125W; Resistance: 20; Tolerance: 1%
footprint chip_0805
pins: 1, 2

## RES-00131
designator R?, comment 21
RES SMD 21 OHM 1% 1/8W 0805; Part Number: RES-00131; Manufacturer: Rohm Semiconductor; Manufacturer PN: KTR10EZPF21R0; Power Rating: 0.125W; Resistance: 21; Tolerance: 1%
footprint chip_0805
pins: 1, 2

## RES-00132
designator R?, comment 22
RES SMD 22 OHM 1% 1/4W 0603; Part Number: RES-00132; Manufacturer: Panasonic; Manufacturer PN: ERJ-PA3F22R0V; Power Rating: 0.25W; Resistance: 22; Tolerance: 1%
footprint chip_0603
pins: 1, 2

## RES-00133
designator R?, comment 22
RES SMD 22 OHM 1% 1/8W 0805; Part Number: RES-00133; Manufacturer: Rohm Semiconductor; Manufacturer PN: KTR10EZPF22R0; Power Rating: 0.125W; Resistance: 22; Tolerance: 1%
footprint chip_0805
pins: 1, 2

## RES-00134
designator R?, comment 23.7
RES SMD 23.7 OHM 1% 1/8W 0805; Part Number: RES-00134; Manufacturer: Rohm Semiconductor; Manufacturer PN: KTR10EZPF23R7; Power Rating: 0.125W; Resistance: 23.7; Tolerance: 1%
footprint chip_0805
pins: 1, 2

## RES-00135
designator R?, comment 24
RES SMD 24 OHM 1% 1/4W 0603; Part Number: RES-00135; Manufacturer: Panasonic; Manufacturer PN: ERJ-PA3F24R0V; Power Rating: 0.25W; Resistance: 24; Tolerance: 1%
footprint chip_0603
pins: 1, 2

## RES-00136
designator R?, comment 24
RES SMD 24 OHM 1% 1/8W 0805; Part Number: RES-00136; Manufacturer: Rohm Semiconductor; Manufacturer PN: KTR10EZPF24R0; Power Rating: 0.125W; Resistance: 24; Tolerance: 1%
footprint chip_0805
pins: 1, 2

## RES-00137
designator R?, comment 24.9
RES SMD 24.9 OHM 1% 1/8W 0805; Part Number: RES-00137; Manufacturer: Rohm Semiconductor; Manufacturer PN: KTR10EZPF24R9; Power Rating: 0.125W; Resistance: 24.9; Tolerance: 1%
footprint chip_0805
pins: 1, 2

## RES-00138
designator R?, comment 27
RES SMD 27 OHM 1% 1/4W 0603; Part Number: RES-00138; Manufacturer: Panasonic; Manufacturer PN: ERJ-PA3F27R0V; Power Rating: 0.25W; Resistance: 27; Tolerance: 1%
footprint chip_0603
pins: 1, 2

## RES-00139
designator R?, comment 28
RES SMD 28 OHM 1% 1/8W 0805; Part Number: RES-00139; Manufacturer: Rohm Semiconductor; Manufacturer PN: KTR10EZPF28R0; Power Rating: 0.125W; Resistance: 28; Tolerance: 1%
footprint chip_0805
pins: 1, 2

## RES-00140
designator R?, comment 28.7
RES SMD 28.7 OHM 1% 1/8W 0805; Part Number: RES-00140; Manufacturer: Rohm Semiconductor; Manufacturer PN: KTR10EZPF28R7; Power Rating: 0.125W; Resistance: 28.7; Tolerance: 1%
footprint chip_0805
pins: 1, 2

## RES-00141
designator R?, comment 30
RES SMD 30 OHM 1% 1/4W 0603; Part Number: RES-00141; Manufacturer: Panasonic; Manufacturer PN: ERJ-PA3F30R0V; Power Rating: 0.25W; Resistance: 30; Tolerance: 1%
footprint chip_0603
pins: 1, 2

## RES-00142
designator R?, comment 30.1
RES SMD 30.1 OHM 1% 1/8W 0805; Part Number: RES-00142; Manufacturer: Rohm Semiconductor; Manufacturer PN: KTR10EZPF30R1; Power Rating: 0.125W; Resistance: 30.1; Tolerance: 1%
footprint chip_0805
pins: 1, 2

## RES-00143
designator R?, comment 31.6
RES SMD 31.6 OHM 1% 1/8W 0805; Part Number: RES-00143; Manufacturer: Rohm Semiconductor; Manufacturer PN: KTR10EZPF31R6; Power Rating: 0.125W; Resistance: 31.6; Tolerance: 1%
footprint chip_0805
pins: 1, 2

## RES-00144
designator R?, comment 33
RES SMD 33 OHM 1% 1/4W 0603; Part Number: RES-00144; Manufacturer: Panasonic; Manufacturer PN: ERJ-PA3F33R0V; Power Rating: 0.25W; Resistance: 33; Tolerance: 1%
footprint chip_0603
pins: 1, 2

## RES-00145
designator R?, comment 33
RES SMD 33 OHM 1% 1/8W 0805; Part Number: RES-00145; Manufacturer: Rohm Semiconductor; Manufacturer PN: KTR10EZPF33R0; Power Rating: 0.125W; Resistance: 33; Tolerance: 1%
footprint chip_0805
pins: 1, 2

## RES-00146
designator R?, comment 33.2
RES SMD 33.2 OHM 1% 1/8W 0805; Part Number: RES-00146; Manufacturer: Rohm Semiconductor; Manufacturer PN: KTR10EZPF33R2; Power Rating: 0.125W; Resistance: 33.2; Tolerance: 1%
footprint chip_0805
pins: 1, 2

## RES-00147
designator R?, comment 35.7
RES SMD 35.7 OHM 1% 1/8W 0805; Part Number: RES-00147; Manufacturer: Rohm Semiconductor; Manufacturer PN: KTR10EZPF35R7; Power Rating: 0.125W; Resistance: 35.7; Tolerance: 1%
footprint chip_0805
pins: 1, 2

## RES-00148
designator R?, comment 36
RES SMD 36 OHM 1% 1/4W 0603; Part Number: RES-00148; Manufacturer: Panasonic; Manufacturer PN: ERJ-PA3F36R0V; Power Rating: 0.25W; Resistance: 36; Tolerance: 1%
footprint chip_0603
pins: 1, 2

## RES-00149
designator R?, comment 39
RES SMD 39 OHM 1% 1/4W 0603; Part Number: RES-00149; Manufacturer: Panasonic; Manufacturer PN: ERJ-PA3F39R0V; Power Rating: 0.25W; Resistance: 39; Tolerance: 1%
footprint chip_0603
pins: 1, 2

## RES-00150
designator R?, comment 39
RES SMD 39 OHM 1% 1/8W 0805; Part Number: RES-00150; Manufacturer: Rohm Semiconductor; Manufacturer PN: KTR10EZPF39R0; Power Rating: 0.125W; Resistance: 39; Tolerance: 1%
footprint chip_0805
pins: 1, 2

## RES-00151
designator R?, comment 40.2
RES SMD 40.2 OHM 1% 1/8W 0805; Part Number: RES-00151; Manufacturer: Rohm Semiconductor; Manufacturer PN: KTR10EZPF40R2; Power Rating: 0.125W; Resistance: 40.2; Tolerance: 1%
footprint chip_0805
pins: 1, 2

## RES-00152
designator R?, comment 43
RES SMD 43 OHM 1% 1/4W 0603; Part Number: RES-00152; Manufacturer: Panasonic; Manufacturer PN: ERJ-PA3F43R0V; Power Rating: 0.25W; Resistance: 43; Tolerance: 1%
footprint chip_0603
pins: 1, 2

## RES-00153
designator R?, comment 47
RES SMD 47 OHM 1% 1/4W 0603; Part Number: RES-00153; Manufacturer: Panasonic; Manufacturer PN: ERJ-PA3F47R0V; Power Rating: 0.25W; Resistance: 47; Tolerance: 1%
footprint chip_0603
pins: 1, 2

## RES-00154
designator R?, comment 47
RES SMD 47 OHM 1% 1/8W 0805; Part Number: RES-00154; Manufacturer: Rohm Semiconductor; Manufacturer PN: KTR10EZPF47R0; Power Rating: 0.125W; Resistance: 47; Tolerance: 1%
footprint chip_0805
pins: 1, 2

## RES-00155
designator R?, comment 49.9
RES SMD 49.9 OHM 1% 1/8W 0805; Part Number: RES-00155; Manufacturer: Rohm Semiconductor; Manufacturer PN: KTR10EZPF49R9; Power Rating: 0.125W; Resistance: 49.9; Tolerance: 1%
footprint chip_0805
pins: 1, 2

## RES-00156
designator R?, comment 51
RES SMD 51 OHM 1% 1/4W 0603; Part Number: RES-00156; Manufacturer: Panasonic; Manufacturer PN: ERJ-PA3F51R0V; Power Rating: 0.25W; Resistance: 51; Tolerance: 1%
footprint chip_0603
pins: 1, 2

## RES-00157
designator R?, comment 51
RES SMD 51 OHM 1% 1/8W 0805; Part Number: RES-00157; Manufacturer: Rohm Semiconductor; Manufacturer PN: KTR10EZPF51R0; Power Rating: 0.125W; Resistance: 51; Tolerance: 1%
footprint chip_0805
pins: 1, 2

## RES-00158
designator R?, comment 51.1
RES SMD 51.1 OHM 1% 1/8W 0805; Part Number: RES-00158; Manufacturer: Rohm Semiconductor; Manufacturer PN: KTR10EZPF51R1; Power Rating: 0.125W; Resistance: 51.1; Tolerance: 1%
footprint chip_0805
pins: 1, 2

## RES-00159
designator R?, comment 56
RES SMD 56 OHM 1% 1/4W 0603; Part Number: RES-00159; Manufacturer: Panasonic; Manufacturer PN: ERJ-PA3F56R0V; Power Rating: 0.25W; Resistance: 56; Tolerance: 1%
footprint chip_0603
pins: 1, 2

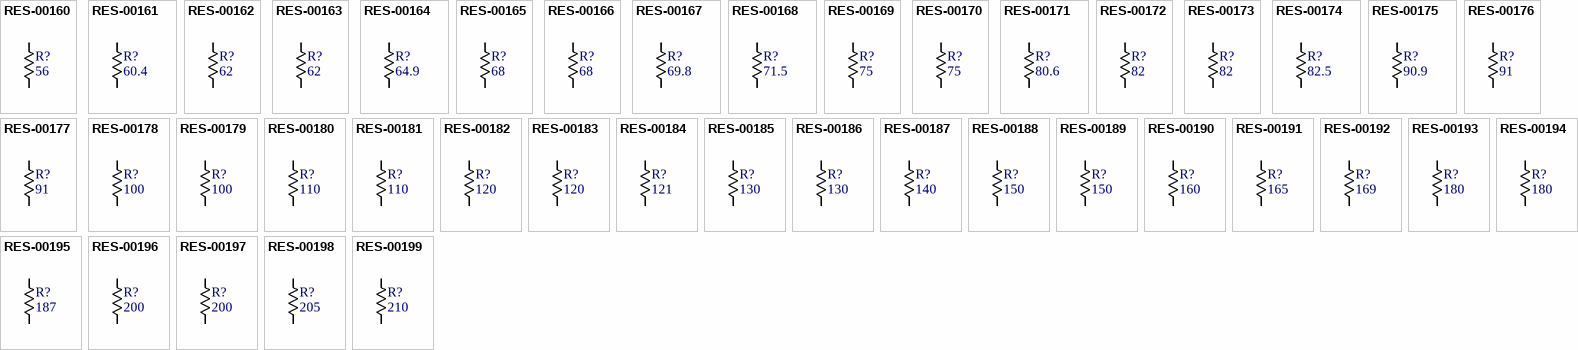
[diagram p4: symbols RES-00160 to RES-00199]

## RES-00160
designator R?, comment 56
RES SMD 56 OHM 1% 1/8W 0805; Part Number: RES-00160; Manufacturer: Rohm Semiconductor; Manufacturer PN: KTR10EZPF56R0; Power Rating: 0.125W; Resistance: 56; Tolerance: 1%
footprint chip_0805
pins: 1, 2

## RES-00161
designator R?, comment 60.4
RES SMD 60.4 OHM 1% 1/8W 0805; Part Number: RES-00161; Manufacturer: Rohm Semiconductor; Manufacturer PN: KTR10EZPF60R4; Power Rating: 0.125W; Resistance: 60.4; Tolerance: 1%
footprint chip_0805
pins: 1, 2

## RES-00162
designator R?, comment 62
RES SMD 62 OHM 1% 1/4W 0603; Part Number: RES-00162; Manufacturer: Panasonic; Manufacturer PN: ERJ-PA3F62R0V; Power Rating: 0.25W; Resistance: 62; Tolerance: 1%
footprint chip_0603
pins: 1, 2

## RES-00163
designator R?, comment 62
RES SMD 62 OHM 1% 1/8W 0805; Part Number: RES-00163; Manufacturer: Rohm Semiconductor; Manufacturer PN: KTR10EZPF62R0; Power Rating: 0.125W; Resistance: 62; Tolerance: 1%
footprint chip_0805
pins: 1, 2

## RES-00164
designator R?, comment 64.9
RES SMD 64.9 OHM 1% 1/8W 0805; Part Number: RES-00164; Manufacturer: Rohm Semiconductor; Manufacturer PN: KTR10EZPF64R9; Power Rating: 0.125W; Resistance: 64.9; Tolerance: 1%
footprint chip_0805
pins: 1, 2

## RES-00165
designator R?, comment 68
RES SMD 68 OHM 1% 1/4W 0603; Part Number: RES-00165; Manufacturer: Panasonic; Manufacturer PN: ERJ-PA3F68R0V; Power Rating: 0.25W; Resistance: 68; Tolerance: 1%
footprint chip_0603
pins: 1, 2

## RES-00166
designator R?, comment 68
RES SMD 68 OHM 1% 1/8W 0805; Part Number: RES-00166; Manufacturer: Rohm Semiconductor; Manufacturer PN: KTR10EZPF68R0; Power Rating: 0.125W; Resistance: 68; Tolerance: 1%
footprint chip_0805
pins: 1, 2

## RES-00167
designator R?, comment 69.8
RES SMD 69.8 OHM 1% 1/8W 0805; Part Number: RES-00167; Manufacturer: Rohm Semiconductor; Manufacturer PN: KTR10EZPF69R8; Power Rating: 0.125W; Resistance: 69.8; Tolerance: 1%
footprint chip_0805
pins: 1, 2

## RES-00168
designator R?, comment 71.5
RES SMD 71.5 OHM 1% 1/8W 0805; Part Number: RES-00168; Manufacturer: Rohm Semiconductor; Manufacturer PN: KTR10EZPF71R5; Power Rating: 0.125W; Resistance: 71.5; Tolerance: 1%
footprint chip_0805
pins: 1, 2

## RES-00169
designator R?, comment 75
RES SMD 75 OHM 1% 1/4W 0603; Part Number: RES-00169; Manufacturer: Panasonic; Manufacturer PN: ERJ-PA3F75R0V; Power Rating: 0.25W; Resistance: 75; Tolerance: 1%
footprint chip_0603
pins: 1, 2

## RES-00170
designator R?, comment 75
RES SMD 75 OHM 1% 1/8W 0805; Part Number: RES-00170; Manufacturer: Rohm Semiconductor; Manufacturer PN: KTR10EZPF75R0; Power Rating: 0.125W; Resistance: 75; Tolerance: 1%
footprint chip_0805
pins: 1, 2

## RES-00171
designator R?, comment 80.6
RES SMD 80.6 OHM 1% 1/8W 0805; Part Number: RES-00171; Manufacturer: Rohm Semiconductor; Manufacturer PN: KTR10EZPF80R6; Power Rating: 0.125W; Resistance: 80.6; Tolerance: 1%
footprint chip_0805
pins: 1, 2

## RES-00172
designator R?, comment 82
RES SMD 82 OHM 1% 1/4W 0603; Part Number: RES-00172; Manufacturer: Panasonic; Manufacturer PN: ERJ-PA3F82R0V; Power Rating: 0.25W; Resistance: 82; Tolerance: 1%
footprint chip_0603
pins: 1, 2

## RES-00173
designator R?, comment 82
RES SMD 82 OHM 1% 1/8W 0805; Part Number: RES-00173; Manufacturer: Rohm Semiconductor; Manufacturer PN: KTR10EZPF82R0; Power Rating: 0.125W; Resistance: 82; Tolerance: 1%
footprint chip_0805
pins: 1, 2

## RES-00174
designator R?, comment 82.5
RES SMD 82.5 OHM 1% 1/8W 0805; Part Number: RES-00174; Manufacturer: Rohm Semiconductor; Manufacturer PN: KTR10EZPF82R5; Power Rating: 0.125W; Resistance: 82.5; Tolerance: 1%
footprint chip_0805
pins: 1, 2

## RES-00175
designator R?, comment 90.9
RES SMD 90.9 OHM 1% 1/8W 0805; Part Number: RES-00175; Manufacturer: Rohm Semiconductor; Manufacturer PN: KTR10EZPF90R9; Power Rating: 0.125W; Resistance: 90.9; Tolerance: 1%
footprint chip_0805
pins: 1, 2

## RES-00176
designator R?, comment 91
RES SMD 91 OHM 1% 1/4W 0603; Part Number: RES-00176; Manufacturer: Panasonic; Manufacturer PN: ERJ-PA3F91R0V; Power Rating: 0.25W; Resistance: 91; Tolerance: 1%
footprint chip_0603
pins: 1, 2

## RES-00177
designator R?, comment 91
RES SMD 91 OHM 1% 1/8W 0805; Part Number: RES-00177; Manufacturer: Rohm Semiconductor; Manufacturer PN: KTR10EZPF91R0; Power Rating: 0.125W; Resistance: 91; Tolerance: 1%
footprint chip_0805
pins: 1, 2

## RES-00178
designator R?, comment 100
RES SMD 100 OHM 1% 1/4W 0603; Part Number: RES-00178; Manufacturer: Panasonic; Manufacturer PN: ERJ-PA3F1000V; Power Rating: 0.25W; Resistance: 100; Tolerance: 1%
footprint chip_0603
pins: 1, 2

## RES-00179
designator R?, comment 100
RES SMD 100 OHM 1% 1/8W 0805; Part Number: RES-00179; Manufacturer: Rohm Semiconductor; Manufacturer PN: KTR10EZPF1000; Power Rating: 0.125W; Resistance: 100; Tolerance: 1%
footprint chip_0805
pins: 1, 2

## RES-00180
designator R?, comment 110
RES SMD 110 OHM 1% 1/4W 0603; Part Number: RES-00180; Manufacturer: Panasonic; Manufacturer PN: ERJ-PA3F1100V; Power Rating: 0.25W; Resistance: 110; Tolerance: 1%
footprint chip_0603
pins: 1, 2

## RES-00181
designator R?, comment 110
RES SMD 110 OHM 1% 1/8W 0805; Part Number: RES-00181; Manufacturer: Rohm Semiconductor; Manufacturer PN: KTR10EZPF1100; Power Rating: 0.125W; Resistance: 110; Tolerance: 1%
footprint chip_0805
pins: 1, 2

## RES-00182
designator R?, comment 120
RES SMD 120 OHM 1% 1/4W 0603; Part Number: RES-00182; Manufacturer: Panasonic; Manufacturer PN: ERJ-PA3F1200V; Power Rating: 0.25W; Resistance: 120; Tolerance: 1%
footprint chip_0603
pins: 1, 2

## RES-00183
designator R?, comment 120
RES SMD 120 OHM 1% 1/8W 0805; Part Number: RES-00183; Manufacturer: Rohm Semiconductor; Manufacturer PN: KTR10EZPF1200; Power Rating: 0.125W; Resistance: 120; Tolerance: 1%
footprint chip_0805
pins: 1, 2

## RES-00184
designator R?, comment 121
RES SMD 121 OHM 1% 1/8W 0805; Part Number: RES-00184; Manufacturer: Rohm Semiconductor; Manufacturer PN: KTR10EZPF1210; Power Rating: 0.125W; Resistance: 121; Tolerance: 1%
footprint chip_0805
pins: 1, 2

## RES-00185
designator R?, comment 130
RES SMD 130 OHM 1% 1/4W 0603; Part Number: RES-00185; Manufacturer: Panasonic; Manufacturer PN: ERJ-PA3F1300V; Power Rating: 0.25W; Resistance: 130; Tolerance: 1%
footprint chip_0603
pins: 1, 2

## RES-00186
designator R?, comment 130
RES SMD 130 OHM 1% 1/8W 0805; Part Number: RES-00186; Manufacturer: Rohm Semiconductor; Manufacturer PN: KTR10EZPF1300; Power Rating: 0.125W; Resistance: 130; Tolerance: 1%
footprint chip_0805
pins: 1, 2

## RES-00187
designator R?, comment 140
RES SMD 140 OHM 1% 1/8W 0805; Part Number: RES-00187; Manufacturer: Rohm Semiconductor; Manufacturer PN: KTR10EZPF1400; Power Rating: 0.125W; Resistance: 140; Tolerance: 1%
footprint chip_0805
pins: 1, 2

## RES-00188
designator R?, comment 150
RES SMD 150 OHM 1% 1/4W 0603; Part Number: RES-00188; Manufacturer: Panasonic; Manufacturer PN: ERJ-PA3F1500V; Power Rating: 0.25W; Resistance: 150; Tolerance: 1%
footprint chip_0603
pins: 1, 2

## RES-00189
designator R?, comment 150
RES SMD 150 OHM 1% 1/8W 0805; Part Number: RES-00189; Manufacturer: Rohm Semiconductor; Manufacturer PN: KTR10EZPF1500; Power Rating: 0.125W; Resistance: 150; Tolerance: 1%
footprint chip_0805
pins: 1, 2

## RES-00190
designator R?, comment 160
RES SMD 160 OHM 1% 1/4W 0603; Part Number: RES-00190; Manufacturer: Panasonic; Manufacturer PN: ERJ-PA3F1600V; Power Rating: 0.25W; Resistance: 160; Tolerance: 1%
footprint chip_0603
pins: 1, 2

## RES-00191
designator R?, comment 165
RES SMD 165 OHM 1% 1/8W 0805; Part Number: RES-00191; Manufacturer: Rohm Semiconductor; Manufacturer PN: KTR10EZPF1650; Power Rating: 0.125W; Resistance: 165; Tolerance: 1%
footprint chip_0805
pins: 1, 2

## RES-00192
designator R?, comment 169
RES SMD 169 OHM 1% 1/8W 0805; Part Number: RES-00192; Manufacturer: Rohm Semiconductor; Manufacturer PN: KTR10EZPF1690; Power Rating: 0.125W; Resistance: 169; Tolerance: 1%
footprint chip_0805
pins: 1, 2

## RES-00193
designator R?, comment 180
RES SMD 180 OHM 1% 1/4W 0603; Part Number: RES-00193; Manufacturer: Panasonic; Manufacturer PN: ERJ-PA3F1800V; Power Rating: 0.25W; Resistance: 180; Tolerance: 1%
footprint chip_0603
pins: 1, 2

## RES-00194
designator R?, comment 180
RES SMD 180 OHM 1% 1/8W 0805; Part Number: RES-00194; Manufacturer: Rohm Semiconductor; Manufacturer PN: KTR10EZPF1800; Power Rating: 0.125W; Resistance: 180; Tolerance: 1%
footprint chip_0805
pins: 1, 2

## RES-00195
designator R?, comment 187
RES SMD 187 OHM 1% 1/8W 0805; Part Number: RES-00195; Manufacturer: Rohm Semiconductor; Manufacturer PN: KTR10EZPF1870; Power Rating: 0.125W; Resistance: 187; Tolerance: 1%
footprint chip_0805
pins: 1, 2

## RES-00196
designator R?, comment 200
RES SMD 200 OHM 1% 1/4W 0603; Part Number: RES-00196; Manufacturer: Panasonic; Manufacturer PN: ERJ-PA3F2000V; Power Rating: 0.25W; Resistance: 200; Tolerance: 1%
footprint chip_0603
pins: 1, 2

## RES-00197
designator R?, comment 200
RES SMD 200 OHM 1% 1/8W 0805; Part Number: RES-00197; Manufacturer: Rohm Semiconductor; Manufacturer PN: KTR10EZPF2000; Power Rating: 0.125W; Resistance: 200; Tolerance: 1%
footprint chip_0805
pins: 1, 2

## RES-00198
designator R?, comment 205
RES SMD 205 OHM 1% 1/8W 0805; Part Number: RES-00198; Manufacturer: Rohm Semiconductor; Manufacturer PN: KTR10EZPF2050; Power Rating: 0.125W; Resistance: 205; Tolerance: 1%
footprint chip_0805
pins: 1, 2

## RES-00199
designator R?, comment 210
RES SMD 210 OHM 1% 1/8W 0805; Part Number: RES-00199; Manufacturer: Rohm Semiconductor; Manufacturer PN: KTR10EZPF2100; Power Rating: 0.125W; Resistance: 210; Tolerance: 1%
footprint chip_0805
pins: 1, 2

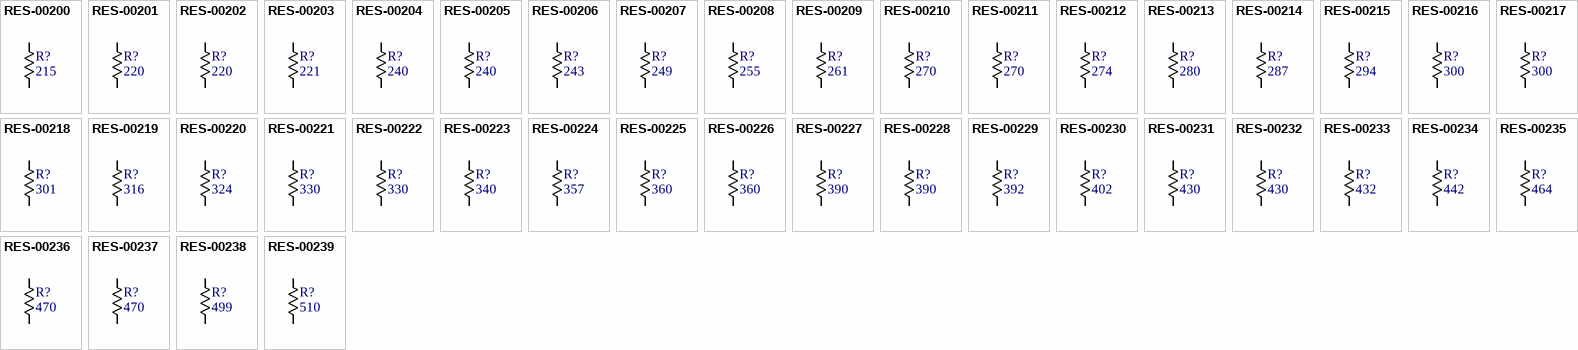
[diagram p5: symbols RES-00200 to RES-00239]

## RES-00200
designator R?, comment 215
RES SMD 215 OHM 1% 1/8W 0805; Part Number: RES-00200; Manufacturer: Rohm Semiconductor; Manufacturer PN: KTR10EZPF2150; Power Rating: 0.125W; Resistance: 215; Tolerance: 1%
footprint chip_0805
pins: 1, 2

## RES-00201
designator R?, comment 220
RES SMD 220 OHM 1% 1/4W 0603; Part Number: RES-00201; Manufacturer: Panasonic; Manufacturer PN: ERJ-PA3F2200V; Power Rating: 0.25W; Resistance: 220; Tolerance: 1%
footprint chip_0603
pins: 1, 2

## RES-00202
designator R?, comment 220
RES SMD 220 OHM 1% 1/8W 0805; Part Number: RES-00202; Manufacturer: Rohm Semiconductor; Manufacturer PN: KTR10EZPF2200; Power Rating: 0.125W; Resistance: 220; Tolerance: 1%
footprint chip_0805
pins: 1, 2

## RES-00203
designator R?, comment 221
RES SMD 221 OHM 1% 1/8W 0805; Part Number: RES-00203; Manufacturer: Rohm Semiconductor; Manufacturer PN: KTR10EZPF2210; Power Rating: 0.125W; Resistance: 221; Tolerance: 1%
footprint chip_0805
pins: 1, 2

## RES-00204
designator R?, comment 240
RES SMD 240 OHM 1% 1/4W 0603; Part Number: RES-00204; Manufacturer: Panasonic; Manufacturer PN: ERJ-PA3F2400V; Power Rating: 0.25W; Resistance: 240; Tolerance: 1%
footprint chip_0603
pins: 1, 2

## RES-00205
designator R?, comment 240
RES SMD 240 OHM 1% 1/8W 0805; Part Number: RES-00205; Manufacturer: Rohm Semiconductor; Manufacturer PN: KTR10EZPF2400; Power Rating: 0.125W; Resistance: 240; Tolerance: 1%
footprint chip_0805
pins: 1, 2

## RES-00206
designator R?, comment 243
RES SMD 243 OHM 1% 1/8W 0805; Part Number: RES-00206; Manufacturer: Rohm Semiconductor; Manufacturer PN: KTR10EZPF2430; Power Rating: 0.125W; Resistance: 243; Tolerance: 1%
footprint chip_0805
pins: 1, 2

## RES-00207
designator R?, comment 249
RES SMD 249 OHM 1% 1/8W 0805; Part Number: RES-00207; Manufacturer: Rohm Semiconductor; Manufacturer PN: KTR10EZPF2490; Power Rating: 0.125W; Resistance: 249; Tolerance: 1%
footprint chip_0805
pins: 1, 2

## RES-00208
designator R?, comment 255
RES SMD 255 OHM 1% 1/8W 0805; Part Number: RES-00208; Manufacturer: Rohm Semiconductor; Manufacturer PN: KTR10EZPF2550; Power Rating: 0.125W; Resistance: 255; Tolerance: 1%
footprint chip_0805
pins: 1, 2